# Altium footprint library Diode power  panasonic SC-110A.PcbLib: 1 footprints
Each footprint in its own frame and in the unit in brackets; x right, y up, seen from the top. Pads: shape width x height; smd on the part's side, far side on the other; paste and mask are expansions set on the pad; w line width, h text height; cw(c..) or ccw(c..) is an arc to the next point about the centre after c.
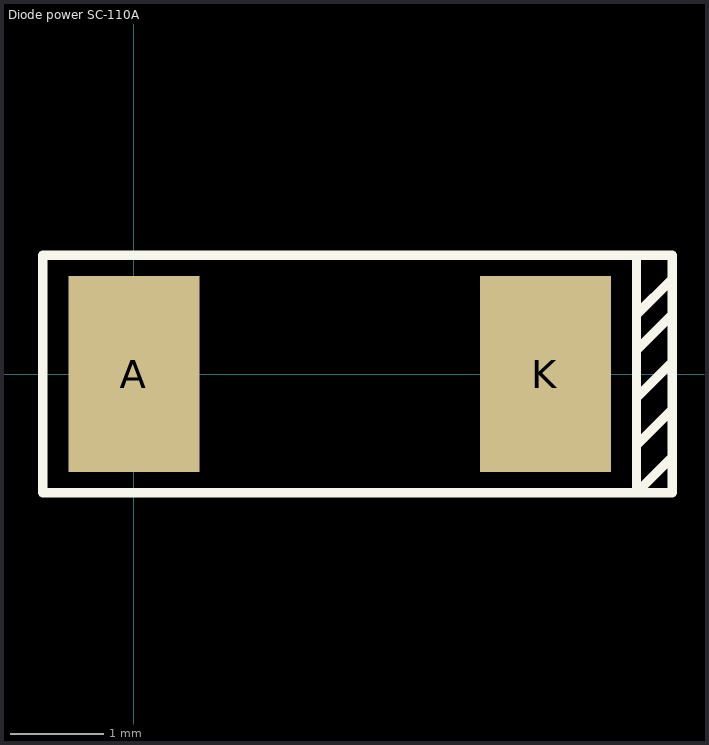
[diagram p0: the footprint, top view; thin cyan lines are the x and y axes]

## Diode power SC-110A [mm] "panasonic  SC-110A power diode 3-5A"
height 0.85
pads (2):
  rect 1.4x2.1 smd: A(0,0) K(4.4,0)
Top Overlay:
  lines w0.1: 5.375,-0.889 5.375,-0.762 5.756,-0.381 ; 5.375,-0.254 5.756,0.127 ; 5.375,0.254 5.756,0.635 ; 5.375,0.635 5.756,1.016 ; 5.756,-0.889 5.375,-1.27 ; 5.375,-1.27 5.375,1.27 ; 5.375,-1.27 -0.975,-1.27 -0.975,1.27 5.375,1.27 ; 5.375,-1.27 5.756,-1.27 5.756,1.27 5.375,1.27
3D body: height 1.42, standoff -0.03, extent 0.176,-0.889 4.026,0.811